# Altium footprint library Mi_lib.PcbLib: 11 footprints
Each footprint in its own frame and in the unit in brackets; x right, y up, seen from the top. Pads: shape width x height; smd on the part's side, far side on the other; paste and mask are expansions set on the pad; w line width, h text height; cw(c..) or ccw(c..) is an arc to the next point about the centre after c.
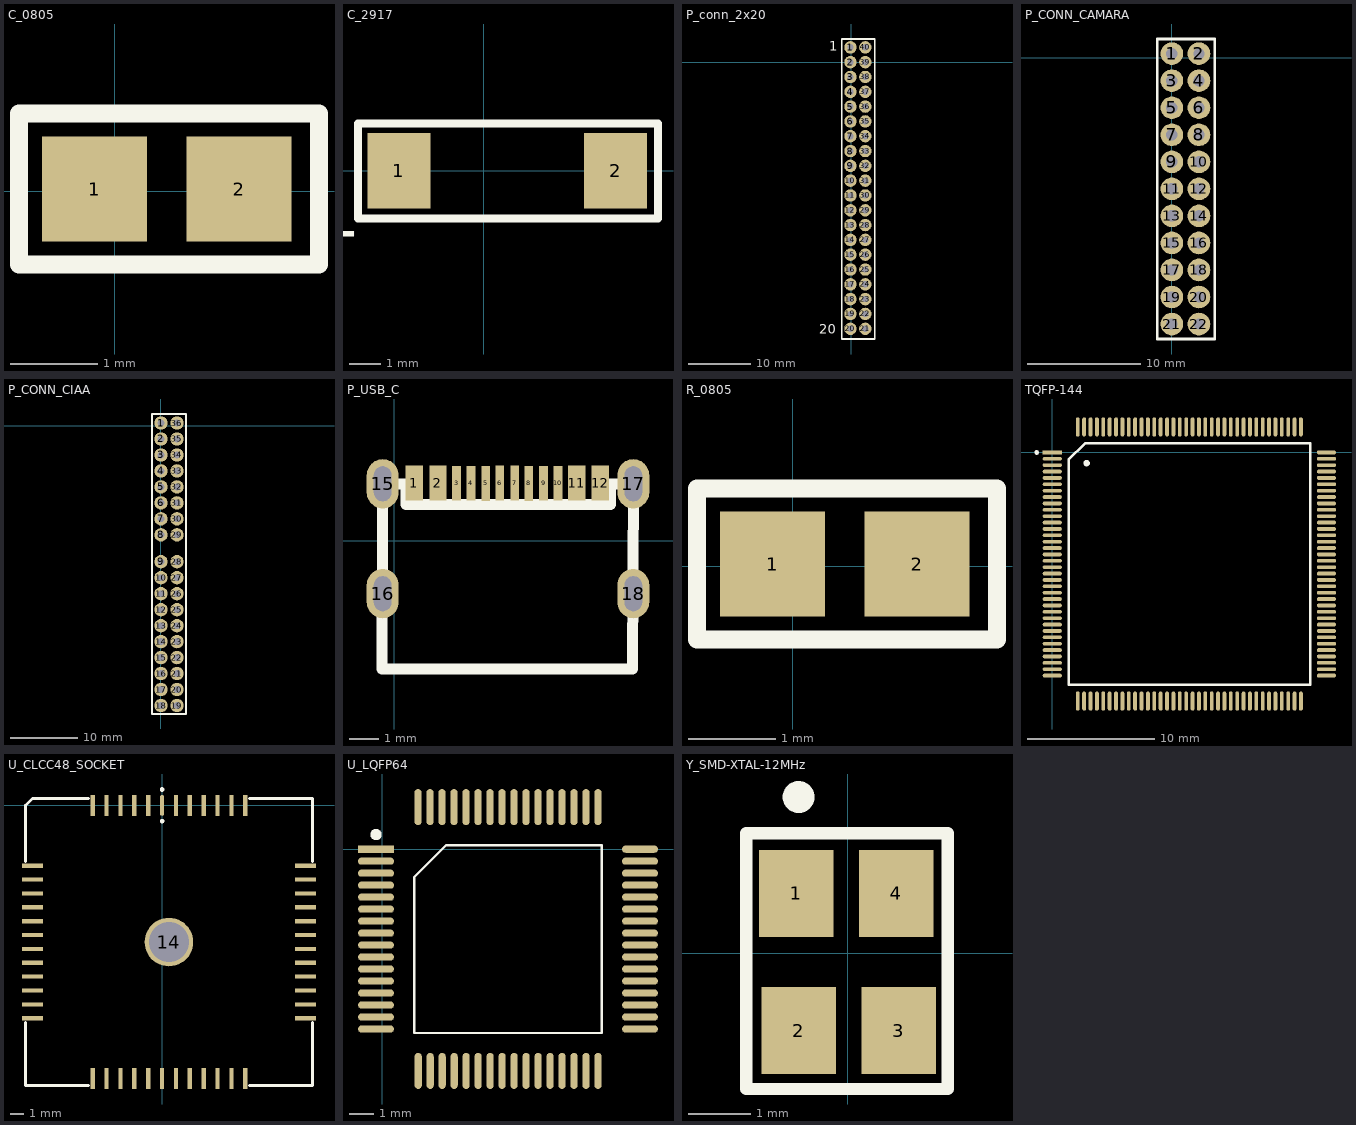
[diagram p0: the footprints below, top view; thin cyan lines are the x and y axes]

## C_0805 [mm]
pads (2):
  rect 1.2x1.2 smd: 1(-0.229,0.025) 2(1.422,0.025)
Top Overlay:
  lines w0.203: -1.092,-0.838 2.337,-0.838 2.337,0.889 -1.092,0.889 -1.092,-0.838
3D body "0805 SMD Capacitor.step": height 0.78, standoff 0, extent -0.441,-0.6 1.559,0.65

## C_2917 [mm]
pads (2):
  rect 2x2.4 smd: 1(-2.692,0) 2(4.191,0)
Top Overlay:
  lines w0.254: -3.988,-1.524 5.537,-1.524 5.537,1.499 -3.988,1.499 -3.988,-1.524
  text "+" at -3.886,-2.667 h1.52
3D body "TPSE337M016R0200.STEP": height 4.3, standoff 0, extent -2.863,-2.15 4.437,2.15

## P_conn_2x20 [mm]
pads (40):
  round 2 hole 1: 1(-0.127,2.413) 2(-0.127,0.025) 3(-0.127,-2.362) 4(-0.127,-4.75) 5(-0.127,-7.137) 6(-0.127,-9.525) 7(-0.127,-11.913) 8(-0.127,-14.3) 9(-0.127,-16.688) 10(-0.127,-19.075) 11(-0.127,-21.463) 12(-0.127,-23.851) 13(-0.127,-26.238) 14(-0.127,-28.626) 15(-0.127,-31.013) 16(-0.127,-33.401) 17(-0.127,-35.789) 18(-0.127,-38.176) 19(-0.127,-40.564) 20(-0.127,-42.951) 21(2.261,-42.951) 22(2.261,-40.564) 23(2.261,-38.176) 24(2.261,-35.789) 25(2.261,-33.401) 26(2.261,-31.013) 27(2.261,-28.626) 28(2.261,-26.238) 29(2.261,-23.851) 30(2.261,-21.463) 31(2.261,-19.075) 32(2.261,-16.688) 33(2.261,-14.3) 34(2.261,-11.913) 35(2.261,-9.525) 36(2.261,-7.137) 37(2.261,-4.75) 38(2.261,-2.362) 39(2.261,0.025) 40(2.261,2.413)
Top Overlay:
  lines w0.254: -1.499,-44.602 -1.499,3.759 3.759,3.759 3.759,-44.602 -1.499,-44.602
  text "1" at -3.556,1.905 h1.52
  text "20" at -5.131,-43.764 h1.52

## P_CONN_CAMARA [mm]
pads (22):
  round 2 hole 1: 1(0.025,0.381) 2(2.413,0.381) 3(0.025,-2.007) 4(2.413,-2.007) 5(0.025,-4.394) 6(2.413,-4.394) 7(0.025,-6.782) 8(2.413,-6.782) 9(0.025,-9.169) 10(2.413,-9.169) 11(0.025,-11.557) 12(2.413,-11.557) 13(0.025,-13.945) 14(2.413,-13.945) 15(0.025,-16.332) 16(2.413,-16.332) 17(0.025,-18.72) 18(2.413,-18.72) 19(0.025,-21.107) 20(2.413,-21.107) 21(0.025,-23.495) 22(2.413,-23.495)
Top Overlay:
  lines w0.254: -1.27,-24.816 3.81,-24.816 3.81,1.676 -1.27,1.676 -1.27,-24.816

## P_CONN_CIAA [mm]
pads (36):
  round 2 hole 1: 1(0.025,0.381) 2(0.025,-2.007) 3(0.025,-4.394) 4(0.025,-6.782) 5(0.025,-9.169) 6(0.025,-11.557) 7(0.025,-13.945) 8(0.025,-16.332) 9(0.025,-20.345) 10(0.025,-22.733) 11(0.025,-25.121) 12(0.025,-27.508) 13(0.025,-29.896) 14(0.025,-32.283) 15(0.025,-34.671) 16(0.025,-37.059) 17(0.025,-39.446) 18(0.025,-41.834) 19(2.413,-41.834) 20(2.413,-39.446) 21(2.413,-37.059) 22(2.413,-34.671) 23(2.413,-32.283) 24(2.413,-29.896) 25(2.413,-27.508) 26(2.413,-25.121) 27(2.413,-22.733) 28(2.413,-20.345) 29(2.413,-16.332) 30(2.413,-13.945) 31(2.413,-11.557) 32(2.413,-9.169) 33(2.413,-6.782) 34(2.413,-4.394) 35(2.413,-2.007) 36(2.413,0.381)
Top Overlay:
  lines w0.254: -1.321,-43.104 3.759,-43.104 3.759,1.727 -1.321,1.727 -1.321,-43.104

## P_USB_C [mm]
pads (16):
  rect 0.6x1.2 smd: 1(0.686,1.981) 2(1.499,1.981) 11(6.274,1.981) 12(7.087,1.981)
  rect 0.3x1.2 smd: 3(2.14,1.977) 4(2.636,1.976) 5(3.144,1.972) 6(3.632,1.981) 7(4.14,1.981) 8(4.628,1.972) 9(5.136,1.976) 10(5.632,1.977)
  oval 1.1x1.7 hole 0.6 slot 1.2 at 90 deg: 15(-0.406,1.956) 16(-0.406,-1.829) 17(8.23,1.956) 18(8.23,-1.829)
Top Overlay:
  lines w0.381: -0.432,-4.42 8.204,-4.42 8.23,1.956 7.442,1.956 7.442,1.245 0.406,1.245 0.406,1.956 -0.406,1.956 -0.432,-4.42

## R_0805 [mm]
pads (2):
  rect 1.2x1.2 smd: 1(-0.229,0.025) 2(1.422,0.025)
Top Overlay:
  lines w0.203: -1.092,-0.838 2.337,-0.838 2.337,0.889 -1.092,0.889 -1.092,-0.838
3D body "0805 SMD Resistor.step": height 0.78, standoff 0, extent -0.416,-0.6 1.584,0.65

## TQFP-144 [mm]
pads (144):
  rect 1.5x0.3 smd: 1(0,0)
  oval 1.5x0.3 smd: 2(0,-0.5) 3(0,-1) 4(0,-1.5) 5(0,-2) 6(0,-2.5) 7(0,-3) 8(0,-3.5) 9(0,-4) 10(0,-4.5) 11(0,-5) 12(0,-5.5) 13(0,-6) 14(0,-6.5) 15(0,-7) 16(0,-7.5) 17(0,-8) 18(0,-8.5) 19(0,-9) 20(0,-9.5) 21(0,-10) 22(0,-10.5) 23(0,-11) 24(0,-11.5) 25(0,-12) 26(0,-12.5) 27(0,-13) 28(0,-13.5) 29(0,-14) 30(0,-14.5) 31(0,-15) 32(0,-15.5) 33(0,-16) 34(0,-16.5) 35(0,-17) 36(0,-17.5) 73(21.5,-17.5) 74(21.5,-17) 75(21.5,-16.5) 76(21.5,-16) 77(21.5,-15.5) 78(21.5,-15) 79(21.5,-14.5) 80(21.5,-14) 81(21.5,-13.5) 82(21.5,-13) 83(21.5,-12.5) 84(21.5,-12) 85(21.5,-11.5) 86(21.5,-11) 87(21.5,-10.5) 88(21.5,-10) 89(21.5,-9.5) 90(21.5,-9) 91(21.5,-8.5) 92(21.5,-8) 93(21.5,-7.5) 94(21.5,-7) 95(21.5,-6.5) 96(21.5,-6) 97(21.5,-5.5) 98(21.5,-5) 99(21.5,-4.5) 100(21.5,-4) 101(21.5,-3.5) 102(21.5,-3) 103(21.5,-2.5) 104(21.5,-2) 105(21.5,-1.5) 106(21.5,-1) 107(21.5,-0.5) 108(21.5,0)
  oval 0.3x1.5 smd: 37(2,-19.5) 38(2.5,-19.5) 39(3,-19.5) 40(3.5,-19.5) 41(4,-19.5) 42(4.5,-19.5) 43(5,-19.5) 44(5.5,-19.5) 45(6,-19.5) 46(6.5,-19.5) 47(7,-19.5) 48(7.5,-19.5) 49(8,-19.5) 50(8.5,-19.5) 51(9,-19.5) 52(9.5,-19.5) 53(10,-19.5) 54(10.5,-19.5) 55(11,-19.5) 56(11.5,-19.5) 57(12,-19.5) 58(12.5,-19.5) 59(13,-19.5) 60(13.5,-19.5) 61(14,-19.5) 62(14.5,-19.5) 63(15,-19.5) 64(15.5,-19.5) 65(16,-19.5) 66(16.5,-19.5) 67(17,-19.5) 68(17.5,-19.5) 69(18,-19.5) 70(18.5,-19.5) 71(19,-19.5) 72(19.5,-19.5) 109(19.5,2) 110(19,2) 111(18.5,2) 112(18,2) 113(17.5,2) 114(17,2) 115(16.5,2) 116(16,2) 117(15.5,2) 118(15,2) 119(14.5,2) 120(14,2) 121(13.5,2) 122(13,2) 123(12.5,2) 124(12,2) 125(11.5,2) 126(11,2) 127(10.5,2) 128(10,2) 129(9.5,2) 130(9,2) 131(8.5,2) 132(8,2) 133(7.5,2) 134(7,2) 135(6.5,2) 136(6,2) 137(5.5,2) 138(5,2) 139(4.5,2) 140(4,2) 141(3.5,2) 142(3,2) 143(2.5,2) 144(2,2)
Top Overlay:
  circle w0.254: c-1.219,0 r0.057
  circle w0.254: c2.692,-0.838 r0.127
  lines w0.2: 1.285,-18.215 20.215,-18.215 20.215,0.715 2.57,0.715 1.285,-0.57 1.285,-18.215

## U_CLCC48_SOCKET [mm]
pads (49):
  oval 0.3x1.5 smd: 1(0,0)
  rect 0.3x1.5 smd: 2(-1,0) 3(-2,0) 4(-3,0) 5(-4,0) 6(-5,0) 19(-5,-19.7) 20(-4,-19.7) 21(-3,-19.7) 22(-2,-19.7) 23(-1,-19.7) 24(0,-19.7) 25(1,-19.7) 26(2,-19.7) 27(3,-19.7) 28(4,-19.7) 29(5,-19.7) 30(6,-19.7) 43(6,0) 44(5,0) 45(4,0) 46(3,0) 47(2,0) 48(1,0)
  rect 1.5x0.3 smd: 7(-9.35,-4.35) 8(-9.35,-5.35) 9(-9.35,-6.35) 10(-9.35,-7.35) 11(-9.35,-8.35) 12(-9.35,-9.35) 13(-9.35,-10.35) 14(-9.35,-11.35) 15(-9.35,-12.35) 16(-9.35,-13.35) 17(-9.35,-14.35) 18(-9.35,-15.35) 31(10.35,-15.35) 32(10.35,-14.35) 33(10.35,-13.35) 34(10.35,-12.35) 35(10.35,-11.35) 36(10.35,-10.35) 37(10.35,-9.35) 38(10.35,-8.35) 39(10.35,-7.35) 40(10.35,-6.35) 41(10.35,-5.35) 42(10.35,-4.35)
  round 3.5 hole 2.9: 14(0.498,-9.854)
Top Overlay:
  circle w0.254: c0,-1.143 r0.037
  circle w0.254: c0,1.143 r0.037
  lines w0.2: -9.85,-15.65 -9.85,-20.2 -5.3,-20.2 ; -9.85,-4.05 -9.85,0 -9.35,0.5 -5.3,0.5 ; 6.3,-20.2 10.85,-20.2 10.85,-15.65 ; 6.3,0.5 10.85,0.5 10.85,-4.05
3D body "PLCC32-Pin-SMD_Socket_IC.step": height 5, standoff -1.02, extent -9.852,-18.954 10.848,-0.754

## U_LQFP64 [mm]
pads (64):
  rect 1.5x0.3 smd: 1(-0.254,0)
  oval 1.5x0.3 smd: 2(-0.254,-0.5) 3(-0.254,-1) 4(-0.254,-1.5) 5(-0.254,-2) 6(-0.254,-2.5) 7(-0.254,-3) 8(-0.254,-3.5) 9(-0.254,-4) 10(-0.254,-4.5) 11(-0.254,-5) 12(-0.254,-5.5) 13(-0.254,-6) 14(-0.254,-6.5) 15(-0.254,-7) 16(-0.254,-7.5) 33(10.754,-7.5) 34(10.754,-7) 35(10.754,-6.5) 36(10.754,-6) 37(10.754,-5.5) 38(10.754,-5) 39(10.754,-4.5) 40(10.754,-4) 41(10.754,-3.5) 42(10.754,-3) 43(10.754,-2.5) 44(10.754,-2) 45(10.754,-1.5) 46(10.754,-1) 47(10.754,-0.5) 48(10.754,0)
  oval 0.3x1.5 smd: 17(1.505,-9.246) 18(2.005,-9.246) 19(2.505,-9.246) 20(3.005,-9.246) 21(3.505,-9.246) 22(4.005,-9.246) 23(4.505,-9.246) 24(5.005,-9.246) 25(5.505,-9.246) 26(6.005,-9.246) 27(6.505,-9.246) 28(7.005,-9.246) 29(7.505,-9.246) 30(8.005,-9.246) 31(8.505,-9.246) 32(9.005,-9.246) 49(9,1.754) 50(8.5,1.754) 51(8,1.754) 52(7.5,1.754) 53(7,1.754) 54(6.5,1.754) 55(6,1.754) 56(5.5,1.754) 57(5,1.754) 58(4.5,1.754) 59(4,1.754) 60(3.5,1.754) 61(3,1.754) 62(2.5,1.754) 63(2,1.754) 64(1.5,1.754)
Top Overlay:
  circle w0.254: c-0.254,0.61 r0.108
  lines w0.1: 1.335,-7.665 1.335,-1.17 2.67,0.165 9.165,0.165 9.165,-7.665 1.335,-7.665
3D body "LQFP-64-10x10.STEP": height 1.55, standoff 0, extent -0.753,-9.744 11.268,2.277

## Y_SMD-XTAL-12MHz [mm]
pads (4):
  rect 1.2x1.4 smd: 1(-0.826,0.965) 2(-0.787,-1.245) 3(0.826,-1.245) 4(0.787,0.965)
Top Overlay:
  circle w0.254: c-0.787,2.515 r0.13
  lines w0.2: -1.633,-2.184 -1.633,1.93 1.617,1.93 1.617,-2.184 -1.633,-2.184
3D body "OSC5032.STEP": height 1.2, standoff 0, extent -1.651,-2.511 1.549,2.489